# Altium schematic symbol library Diodes.SchLib: 448 symbols (part 9 of 10)
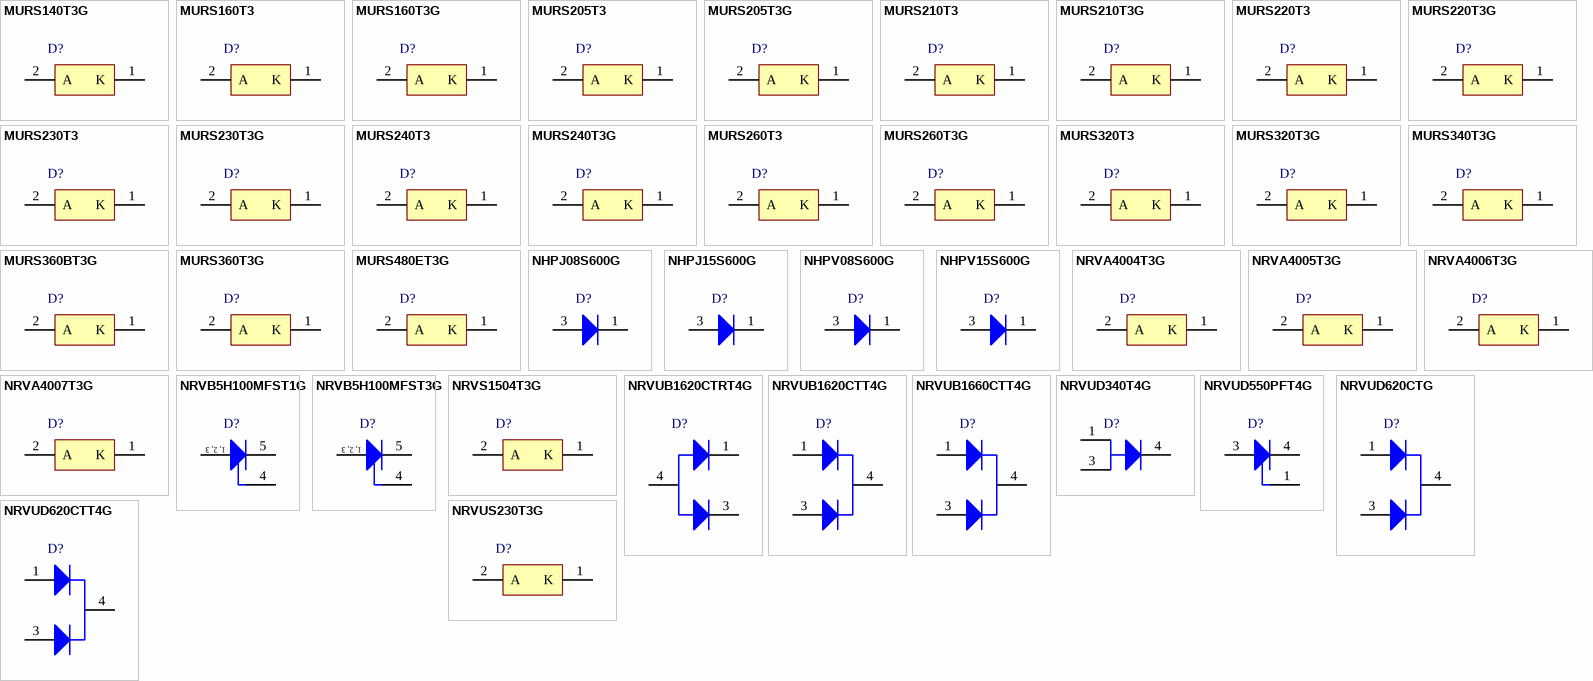
[diagram p19: symbols MURS140T3G to NRVUS230T3G]

## MURS480ET3G
designator D?
SWITCHMODE(TM) Power Rectifier, Ultrafast 'E' Series with High Reverse Energy Capability, 2-Pin SMC, Pb-Free, Tape and Reel; Manufacturer: On Semiconductor; PartNumber: MURS480ET3G; IFSM Max (A): 70; DatasheetVersion: Rev. 1; PackageVersion: Rev. E, 08/2005; PackageReference: SMC-2-403-03; PackageDescription: 2-Pin Small Molded Package, J-Bend Lead, Body 5.845 x 6.855 mm; Supplier 1: Digi-Key; Supplier Part Number 1: MURS480ET3GOSTR-ND; Supplier 2: Digi-Key; Supplier Part Number 2: MURS480ET3GOSCT-ND; Supplier 3: Digi-Key; Supplier Part Number 3: MURS480ET3GOSDKR-ND; Supplier 4: Newark; Supplier Part Number 4: 57M9773; Supplier 5: Mouser; Supplier Part Number 5: 863-MURS480ET3G; Packing: Tape and Reel; RoHS: TRUE; Type: Ultrafast; Mounting Technology: Surface Mount; ComponentLink1Description: Manufacturer URL; ComponentLink1URL: http://www.onsemi.com/; ComponentLink2Description: Datasheet; ComponentLink2URL: http://www.onsemi.cn/pub_link/Collateral/MURS480E.PDF; ComponentLink3Description: Package Specification; ComponentLink3URL: http://www.onsemi.com/pub_link/Collateral/403-03.PDF
footprint ONSC-SMC-2-403-03_V (Molded, 2-Leads, Body 6.86x5.84mm)
pins: 1 K, 2 A

## NHPJ08S600G
designator D?
SWITCHMODE(TM) Power Rectifier, 2-Pin TO-220FP, Pb-Free, Tube; Manufacturer: On Semiconductor; PartNumber: NHPJ08S600G; IFSM Max (A): 80; Type: Ultrafast; VRRM Max (V): 600; DatasheetVersion: Rev. 1; PackageVersion: Rev. A, 04/2013; PackageReference: TO-220FP-2-221AG; PackageDescription: 2-Pin Flange Mount, Vertical Straight Lead, Body 10.16 x 4.5 mm, Pitch 5.08 mm; Supplier 1: Newark; Supplier Part Number 1: 97W6302; Supplier 2: Mouser; Supplier Part Number 2: 863-NHPJ08S600G; Packing: Tube; RoHS: TRUE; Mounting Technology: Through Hole; ComponentLink1Description: Manufacturer URL; ComponentLink1URL: http://www.onsemi.com/; ComponentLink2Description: Datasheet; ComponentLink2URL: http://www.onsemi.com/pub_link/Collateral/NHPV08S600-D.PDF; ComponentLink3Description: Package Specification; ComponentLink3URL: http://www.onsemi.com/pub_link/Collateral/221AG.PDF
footprint ONSC-TO-220FP-2-221AG (FM, 2-Leads, Body 10.7x4.7mm, Pitch 5.08mm)
pins: 1 K, 3 A

## NHPJ15S600G
designator D?
SWITCHMODE(TM) Power Rectifier, 2-Pin TO-220FP, Pb-Free, Tube; Manufacturer: On Semiconductor; PartNumber: NHPJ15S600G; IFSM Max (A): 150; Type: Ultrafast; VRRM Max (V): 600; DatasheetVersion: Rev. 0; PackageVersion: Rev. A, 04/2013; PackageReference: TO-220FP-2-221AG; PackageDescription: 2-Pin Flange Mount, Vertical Straight Lead, Body 10.16 x 4.5 mm, Pitch 5.08 mm; Supplier 1: Newark; Supplier Part Number 1: 97W6303; Supplier 2: Mouser; Supplier Part Number 2: 863-NHPJ15S600G; Packing: Tube; RoHS: TRUE; Mounting Technology: Through Hole; ComponentLink1Description: Manufacturer URL; ComponentLink1URL: http://www.onsemi.com/; ComponentLink2Description: Datasheet; ComponentLink2URL: http://www.onsemi.com/pub_link/Collateral/NHPV15S600-D.PDF; ComponentLink3Description: Package Specification; ComponentLink3URL: http://www.onsemi.com/pub_link/Collateral/221AG.PDF
footprint ONSC-TO-220FP-2-221AG (FM, 2-Leads, Body 10.7x4.7mm, Pitch 5.08mm)
pins: 1 K, 3 A

## NHPV08S600G
designator D?
SWITCHMODE(TM) Power Rectifier, 2-Pin TO-220, Pb-Free, Tube; Manufacturer: On Semiconductor; PartNumber: NHPV08S600G; IFSM Max (A): 80; Type: Ultrafast; VRRM Max (V): 600; DatasheetVersion: Rev. 1; PackageVersion: Rev. E; PackageReference: TO-220-2-221B-04_E; PackageDescription: 2-Pin Flange Mount, Vertical Straight Lead, Body 9.97 x 4.44 mm, Pitch 5.08 mm; Supplier 1: Newark; Supplier Part Number 1: 97W6304; Supplier 2: Mouser; Supplier Part Number 2: 863-NHPV08S600G; Packing: Tube; RoHS: TRUE; Mounting Technology: Through Hole; ComponentLink1Description: Manufacturer URL; ComponentLink1URL: http://www.onsemi.com/; ComponentLink2Description: Datasheet; ComponentLink2URL: http://www.onsemi.com/pub_link/Collateral/NHPV08S600-D.PDF; ComponentLink3Description: Package Specification; ComponentLink3URL: http://www.onsemi.com/pub_link/Collateral/BYW29-D.PDF
footprint ONSC-TO-220-2-221B-04_E (FM, 2-Leads, Body 10.3x4.85mm, Pitch 5.08mm)
pins: 1 K, 3 A

## NHPV15S600G
designator D?
SWITCHMODE(TM) Power Rectifier, 2-Pin TO-220, Pb-Free, Tube; Manufacturer: On Semiconductor; PartNumber: NHPV15S600G; IFSM Max (A): 150; Type: Ultrafast; VRRM Max (V): 600; DatasheetVersion: Rev. 0; PackageVersion: Rev. E; PackageReference: TO-220-2-221B-04_E; PackageDescription: 2-Pin Flange Mount, Vertical Straight Lead, Body 9.97 x 4.44 mm, Pitch 5.08 mm; Supplier 1: Newark; Supplier Part Number 1: 97W6305; Supplier 2: Mouser; Supplier Part Number 2: 863-NHPV15S600G; Packing: Tube; RoHS: TRUE; Mounting Technology: Through Hole; ComponentLink1Description: Manufacturer URL; ComponentLink1URL: http://www.onsemi.com/; ComponentLink2Description: Datasheet; ComponentLink2URL: http://www.onsemi.com/pub_link/Collateral/NHPV15S600-D.PDF; ComponentLink3Description: Package Specification; ComponentLink3URL: http://www.onsemi.com/pub_link/Collateral/BYW29-D.PDF
footprint ONSC-TO-220-2-221B-04_E (FM, 2-Leads, Body 10.3x4.85mm, Pitch 5.08mm)
pins: 1 K, 3 A

## NRVA4004T3G
designator D?
Surface Mount Standard Recovery Power Rectifier, 2-Pin SMA, Pb-Free, Tape and Reel; Manufacturer: On Semiconductor; PartNumber: NRVA4004T3G; IFSM Max (A): 30; IO(rec) Max (A): 1; VRRM Max (V): 400; DatasheetVersion: Rev. 9; PackageVersion: Rev. G, 07/2012; PackageReference: SMA-2-403D-02; PackageDescription: 2-Pin Small Molded Package, J-Bend Lead, Body 2.605 x 4.315 mm; Supplier 1: Digi-Key; Supplier Part Number 1: NRVA4004T3G-ND; Supplier 2: Mouser; Supplier Part Number 2: 863-NRVA4004T3G; Packing: Tape and Reel; RoHS: TRUE; Type: Standard Recovery; Mounting Technology: Surface Mount; ComponentLink1Description: Manufacturer URL; ComponentLink1URL: http://www.onsemi.com/; ComponentLink2Description: Datasheet; ComponentLink2URL: http://www.onsemi.com/pub_link/Collateral/MRA4003T3-D.PDF; ComponentLink3Description: Package Specification; ComponentLink3URL: http://www.onsemi.com/pub_link/Collateral/403D-02.PDF
footprint ONSC-SMA-2-403D-02_V (Molded, 2-Leads, Body 4.57x2.92mm)
pins: 1 K, 2 A

## NRVA4005T3G
designator D?
Surface Mount Standard Recovery Power Rectifier, 2-Pin SMA, Pb-Free, Tape and Reel; Manufacturer: On Semiconductor; PartNumber: NRVA4005T3G; IFSM Max (A): 30; IO(rec) Max (A): 1; VRRM Max (V): 600; DatasheetVersion: Rev. 9; PackageVersion: Rev. G, 07/2012; PackageReference: SMA-2-403D-02; PackageDescription: 2-Pin Small Molded Package, J-Bend Lead, Body 2.605 x 4.315 mm; Supplier 1: Newark; Supplier Part Number 1: 45W8838; Supplier 2: Mouser; Supplier Part Number 2: 863-NRVA4005T3G; Packing: Tape and Reel; RoHS: TRUE; Type: Standard Recovery; Mounting Technology: Surface Mount; ComponentLink1Description: Manufacturer URL; ComponentLink1URL: http://www.onsemi.com/; ComponentLink2Description: Datasheet; ComponentLink2URL: http://www.onsemi.com/pub_link/Collateral/MRA4003T3-D.PDF; ComponentLink3Description: Package Specification; ComponentLink3URL: http://www.onsemi.com/pub_link/Collateral/403D-02.PDF
footprint ONSC-SMA-2-403D-02_V (Molded, 2-Leads, Body 4.57x2.92mm)
pins: 1 K, 2 A

## NRVA4006T3G
designator D?
Surface Mount Standard Recovery Power Rectifier, 2-Pin SMA, Pb-Free, Tape and Reel; Manufacturer: On Semiconductor; PartNumber: NRVA4006T3G; IFSM Max (A): 30; IO(rec) Max (A): 1; VRRM Max (V): 800; DatasheetVersion: Rev. 9; PackageVersion: Rev. G, 07/2012; PackageReference: SMA-2-403D-02; PackageDescription: 2-Pin Small Molded Package, J-Bend Lead, Body 2.605 x 4.315 mm; Supplier 1: Mouser; Supplier Part Number 1: 863-NRVA4006T3G; Packing: Tape and Reel; RoHS: TRUE; Type: Standard Recovery; Mounting Technology: Surface Mount; ComponentLink1Description: Manufacturer URL; ComponentLink1URL: http://www.onsemi.com/; ComponentLink2Description: Datasheet; ComponentLink2URL: http://www.onsemi.com/pub_link/Collateral/MRA4003T3-D.PDF; ComponentLink3Description: Package Specification; ComponentLink3URL: http://www.onsemi.com/pub_link/Collateral/403D-02.PDF
footprint ONSC-SMA-2-403D-02_V (Molded, 2-Leads, Body 4.57x2.92mm)
pins: 1 K, 2 A

## NRVA4007T3G
designator D?
Surface Mount Standard Recovery Power Rectifier, 2-Pin SMA, Pb-Free, Tape and Reel; Manufacturer: On Semiconductor; PartNumber: NRVA4007T3G; IFSM Max (A): 30; IO(rec) Max (A): 1; VRRM Max (V): 1000; DatasheetVersion: Rev. 9; PackageVersion: Rev. G, 07/2012; PackageReference: SMA-2-403D-02; PackageDescription: 2-Pin Small Molded Package, J-Bend Lead, Body 2.605 x 4.315 mm; Supplier 1: Newark; Supplier Part Number 1: 45W8840; Supplier 2: Mouser; Supplier Part Number 2: 863-NRVA4007T3G; Packing: Tape and Reel; RoHS: TRUE; Type: Standard Recovery; Mounting Technology: Surface Mount; ComponentLink1Description: Manufacturer URL; ComponentLink1URL: http://www.onsemi.com/; ComponentLink2Description: Datasheet; ComponentLink2URL: http://www.onsemi.com/pub_link/Collateral/MRA4003T3-D.PDF; ComponentLink3Description: Package Specification; ComponentLink3URL: http://www.onsemi.com/pub_link/Collateral/403D-02.PDF
footprint ONSC-SMA-2-403D-02_V (Molded, 2-Leads, Body 4.57x2.92mm)
pins: 1 K, 2 A

## NRVB5H100MFST1G
designator D?
SWITCHMODE(TM) Power Rectifier, 5-Pin DFN, Pb-Free, Tape and Reel; Manufacturer: On Semiconductor; PartNumber: NRVB5H100MFST1G; Note: 0; IFSM Max (A): 200; DatasheetVersion: Rev. G; PackageVersion: Rev. G, 04/2012; PackageReference: DFN-5-488AA_G; PackageDescription: 5-Pin Small Outline No-Lead, Body 4.9 x 5.8 mm, Pitch 1.27 mm; Packing: Tape and Reel; RoHS: TRUE; Mounting Technology: Surface Mount; ComponentLink1Description: Manufacturer URL; ComponentLink1URL: http://www.onsemi.com/; ComponentLink2Description: Datasheet; ComponentLink2URL: http://www.onsemi.com/pub_link/Collateral/MBR5H100MFS-D.PDF; ComponentLink3Description: Package Specification; ComponentLink3URL: http://www.onsemi.com/pub_link/Collateral/MBR5H100MFS-D.PDF
footprint ONSC-DFN-5-488AA_G_V (DFN, 5-Leads, Body 4.9x5.8mm)
pins: 1 A, 2 A, 3 A, 4 NC, 5 K
text: 1, 2, 3

## NRVB5H100MFST3G
designator D?
SWITCHMODE(TM) Power Rectifier, 5-Pin DFN, Pb-Free, Tape and Reel; Manufacturer: On Semiconductor; PartNumber: NRVB5H100MFST3G; Note: 0; IFSM Max (A): 200; DatasheetVersion: Rev. G; PackageVersion: Rev. G, 04/2012; PackageReference: DFN-5-488AA_G; PackageDescription: 5-Pin Small Outline No-Lead, Body 4.9 x 5.8 mm, Pitch 1.27 mm; Packing: Tape and Reel; RoHS: TRUE; Mounting Technology: Surface Mount; ComponentLink1Description: Manufacturer URL; ComponentLink1URL: http://www.onsemi.com/; ComponentLink2Description: Datasheet; ComponentLink2URL: http://www.onsemi.com/pub_link/Collateral/MBR5H100MFS-D.PDF; ComponentLink3Description: Package Specification; ComponentLink3URL: http://www.onsemi.com/pub_link/Collateral/MBR5H100MFS-D.PDF
footprint ONSC-DFN-5-488AA_G_V (DFN, 5-Leads, Body 4.9x5.8mm)
pins: 1 A, 2 A, 3 A, 4 NC, 5 K
text: 1, 2, 3

## NRVS1504T3G
designator D?
Surface Mount Standard Recovery Power Rectifier, 2-Pin SMB, Pb-Free, Tape and Reel; Manufacturer: On Semiconductor; PartNumber: NRVS1504T3G; IFSM Max (A): 50; IO(rec) Max (A): 1.5; VRRM Max (V): 400; DatasheetVersion: Rev. 6; PackageVersion: Rev. J, 07/2012; PackageReference: SMB-2-403A-03; PackageDescription: 2-Pin Small Molded Package, J-Bend Lead, Body 4.33 x 3.625 mm; Supplier 1: Digi-Key; Supplier Part Number 1: NRVS1504T3G-ND; Supplier 2: Mouser; Supplier Part Number 2: 863-NRVS1504T3G; Packing: Tape and Reel; RoHS: TRUE; Type: Standard Recovery; Mounting Technology: Surface Mount; ComponentLink1Description: Manufacturer URL; ComponentLink1URL: http://www.onsemi.com/; ComponentLink2Description: Datasheet; ComponentLink2URL: http://www.onsemi.com/pub_link/Collateral/MRS1504T3-D.PDF; ComponentLink3Description: Package Specification; ComponentLink3URL: http://www.onsemi.com/pub_link/Collateral/403A-03.PDF
footprint ONSC-SMB-2-403A-03_V (Molded, 2-Leads, Body 4.6x3.95mm)
pins: 1 K, 2 A

## NRVUB1620CTRT4G
designator D?
SWITCHMODE(TM) Power Rectifier, 3-Pin D2PAK, Pb-Free, Tape and Reel; Manufacturer: On Semiconductor; PartNumber: NRVUB1620CTRT4G; IFSM Max (A): 100; Type: Ultrafast; VRRM Max (V): 200; DatasheetVersion: Rev. 8; PackageVersion: Rev. A, 07/2011; PackageReference: D2PAK-3-418AJ_A; PackageDescription: 3-Pin Flange Mount, Body 10.16 x 9.015 mm, Pitch 2.54 mm; Supplier 1: Mouser; Supplier Part Number 1: N/A; Packing: Tape and Reel; RoHS: TRUE; Mounting Technology: Surface Mount; ComponentLink1Description: Manufacturer URL; ComponentLink1URL: http://www.onsemi.com/; ComponentLink2Description: Datasheet; ComponentLink2URL: http://www.onsemi.cn/pub_link/Collateral/MUR1620CTR-D.PDF; ComponentLink3Description: Package Specification; ComponentLink3URL: http://www.onsemi.cn/pub_link/Collateral/MUR1620CTR-D.PDF
footprint ONSC-D2PAK-3-418AJ_A_V (DPAK, 3-Leads, Body 10.16x9.015mm, Pitch 2.54mm)
pins: 1 K1, 3 K2, 4 A

## NRVUB1620CTT4G
designator D?
SWITCHMODE(TM) Power Rectifier, 3-Pin D2PAK, Pb-Free, Tape and Reel; Manufacturer: On Semiconductor; PartNumber: NRVUB1620CTT4G; IFSM Max (A): 100; Type: Ultrafast; VRRM Max (V): 200; DatasheetVersion: Rev. 7; PackageVersion: Rev. K, 09/2008; PackageReference: D2PAK-3-418B-04; PackageDescription: 3-Pin Flange Mount, Body 9.145 x 9.97 mm, Pitch 2.54 mm; Supplier 1: Mouser; Supplier Part Number 1: N/A; Packing: Tape and Reel; RoHS: TRUE; Mounting Technology: Surface Mount; ComponentLink1Description: Manufacturer URL; ComponentLink1URL: http://www.onsemi.com/; ComponentLink2Description: Datasheet; ComponentLink2URL: http://www.onsemi.cn/pub_link/Collateral/MURB1620CT-D.PDF; ComponentLink3Description: Package Specification; ComponentLink3URL: http://www.onsemi.com/pub_link/Collateral/418B-04.PDF
footprint ONSC-D2PAK-3-418B-04_V (DPAK, 3-Leads, Body 9.97x9.145mm, Pitch 2.54mm)
pins: 1 A1, 3 A2, 4 K

## NRVUB1660CTT4G
designator D?
SWITCHMODE(TM) Power Rectifier, 3-Pin D2PAK, Pb-Free, Tape and Reel; Manufacturer: On Semiconductor; PartNumber: NRVUB1660CTT4G; IFSM Max (A): 100; Type: Ultrafast; VRRM Max (V): 600; DatasheetVersion: Rev. 8; PackageVersion: Rev. K, 09/2008; PackageReference: D2PAK-3-418B-04; PackageDescription: 3-Pin Flange Mount, Body 9.145 x 9.97 mm, Pitch 2.54 mm; Supplier 1: Digi-Key; Supplier Part Number 1: NRVUB1660CTT4G-ND; Supplier 2: Newark; Supplier Part Number 2: 76T6682; Supplier 3: Mouser; Supplier Part Number 3: 863-NRVUB1660CTT4G; Packing: Tape and Reel; RoHS: TRUE; Mounting Technology: Surface Mount; ComponentLink1Description: Manufacturer URL; ComponentLink1URL: http://www.onsemi.com/; ComponentLink2Description: Datasheet; ComponentLink2URL: http://www.onsemi.cn/pub_link/Collateral/MURB1660CT-D.PDF; ComponentLink3Description: Package Specification; ComponentLink3URL: http://www.onsemi.com/pub_link/Collateral/418B-04.PDF
footprint ONSC-D2PAK-3-418B-04_V (DPAK, 3-Leads, Body 9.97x9.145mm, Pitch 2.54mm)
pins: 1 A1, 3 A2, 4 K

## NRVUD340T4G
designator D?
SWITCHMODE(TM) Power Rectifier, 3-Pin DPAK, Pb-Free, Tape and Reel; Manufacturer: On Semiconductor; PartNumber: NRVUD340T4G; IFSM Max (A): 75; Type: Ultrafast; DatasheetVersion: Rev. 2; PackageVersion: Rev. E, 02/2014; PackageReference: DPAK-3-369C-01; PackageDescription: 3-Pin Flange Mount, Body 6.54 x 6.095 mm, Pitch 2.29 mm; Supplier 1: Digi-Key; Supplier Part Number 1: NRVUD340T4G-ND; Supplier 2: Mouser; Supplier Part Number 2: 863-NRVUD340T4G; Packing: Tape and Reel; RoHS: TRUE; Mounting Technology: Surface Mount; ComponentLink1Description: Manufacturer URL; ComponentLink1URL: http://www.onsemi.com/; ComponentLink2Description: Datasheet; ComponentLink2URL: http://www.onsemi.cn/pub_link/Collateral/MURD340-D.PDF; ComponentLink3Description: Package Specification; ComponentLink3URL: http://www.onsemi.cn/pub_link/Collateral/369C.PDF
footprint ONSC-DPAK-3-369C-01_V (DPAK, 3-Leads, Body 6.54x6.095mm, Pitch 2.29mm)
pins: 1 A, 3 A, 4 K

## NRVUD550PFT4G
designator D?
SWITCHMODE(TM) Power Rectifier, 3-Pin DPAK, Pb-Free, Tape and Reel; Manufacturer: On Semiconductor; PartNumber: NRVUD550PFT4G; IFSM Max (A): 75; Type: Ultrafast; VRRM Max (V): 520; DatasheetVersion: Rev. 8; PackageVersion: Rev. E, 02/2014; PackageReference: DPAK-3-369C-01; PackageDescription: 3-Pin Flange Mount, Body 6.54 x 6.095 mm, Pitch 2.29 mm; Supplier 1: Digi-Key; Supplier Part Number 1: NRVUD550PFT4G-ND; Supplier 2: Newark; Supplier Part Number 2: 76T6684; Supplier 3: Mouser; Supplier Part Number 3: 863-NRVUD550PFT4G; Packing: Tape and Reel; RoHS: TRUE; Mounting Technology: Surface Mount; ComponentLink1Description: Manufacturer URL; ComponentLink1URL: http://www.onsemi.com/; ComponentLink2Description: Datasheet; ComponentLink2URL: http://www.onsemi.cn/pub_link/Collateral/MUR550-D.PDF; ComponentLink3Description: Package Specification; ComponentLink3URL: http://www.onsemi.cn/pub_link/Collateral/369C.PDF
footprint ONSC-DPAK-3-369C-01_V (DPAK, 3-Leads, Body 6.54x6.095mm, Pitch 2.29mm)
pins: 1 NC, 3 A, 4 K

## NRVUD620CTG
designator D?
SWITCHMODE(TM) Power Rectifier, 3-Pin DPAK, Pb-Free, Tube; Manufacturer: On Semiconductor; PartNumber: NRVUD620CTG; IFSM Max (A): 50; Type: Ultrafast; VRRM Max (V): 200; DatasheetVersion: Rev. 11; PackageVersion: Rev. E, 02/2014; PackageReference: DPAK-3-369C-01; PackageDescription: 3-Pin Flange Mount, Body 6.54 x 6.095 mm, Pitch 2.29 mm; Supplier 1: Digi-Key; Supplier Part Number 1: NRVUD620CTG-ND; Supplier 2: Mouser; Supplier Part Number 2: 863-NRVUD620CTG; Packing: Tube; RoHS: TRUE; Mounting Technology: Surface Mount; ComponentLink1Description: Manufacturer URL; ComponentLink1URL: http://www.onsemi.com/; ComponentLink2Description: Datasheet; ComponentLink2URL: http://www.onsemi.cn/pub_link/Collateral/MURD620CT-D.PDF; ComponentLink3Description: Package Specification; ComponentLink3URL: http://www.onsemi.cn/pub_link/Collateral/369C.PDF
footprint ONSC-DPAK-3-369C-01_V (DPAK, 3-Leads, Body 6.54x6.095mm, Pitch 2.29mm)
pins: 1 A1, 3 A2, 4 K

## NRVUD620CTT4G
designator D?
SWITCHMODE(TM) Power Rectifier, 3-Pin DPAK, Pb-Free, Tape and Reel; Manufacturer: On Semiconductor; PartNumber: NRVUD620CTT4G; IFSM Max (A): 50; Type: Ultrafast; VRRM Max (V): 200; DatasheetVersion: Rev. 11; PackageVersion: Rev. E, 02/2014; PackageReference: DPAK-3-369C-01; PackageDescription: 3-Pin Flange Mount, Body 6.54 x 6.095 mm, Pitch 2.29 mm; Supplier 1: Digi-Key; Supplier Part Number 1: NRVUD620CTT4G-ND; Supplier 2: Newark; Supplier Part Number 2: 76T6686; Supplier 3: Newark; Supplier Part Number 3: 95W5335; Supplier 4: Mouser; Supplier Part Number 4: 863-NRVUD620CTT4G; Packing: Tape and Reel; RoHS: TRUE; Mounting Technology: Surface Mount; ComponentLink1Description: Manufacturer URL; ComponentLink1URL: http://www.onsemi.com/; ComponentLink2Description: Datasheet; ComponentLink2URL: http://www.onsemi.cn/pub_link/Collateral/MURD620CT-D.PDF; ComponentLink3Description: Package Specification; ComponentLink3URL: http://www.onsemi.cn/pub_link/Collateral/369C.PDF
footprint ONSC-DPAK-3-369C-01_V (DPAK, 3-Leads, Body 6.54x6.095mm, Pitch 2.29mm)
pins: 1 A1, 3 A2, 4 K

## NRVUS230T3G
designator D?
Surface Mount Ultrafast Power Rectifier, 2-Pin SMB, Pb-Free, Tape and Reel; Manufacturer: On Semiconductor; PartNumber: NRVUS230T3G; IFSM Max (A): 35; DatasheetVersion: Rev. 8; PackageVersion: Rev. H, 05/2011; PackageReference: SMB-2-403A-03_H; PackageDescription: 2-Pin Small Molded Package, J-Bend Lead, Body 4.33 x 3.625 mm; Supplier 1: Digi-Key; Supplier Part Number 1: NRVUS230T3G-ND; Supplier 2: Mouser; Supplier Part Number 2: 863-NRVUS230T3G; Packing: Tape and Reel; RoHS: TRUE; Type: Ultrafast; Mounting Technology: Surface Mount; ComponentLink1Description: Manufacturer URL; ComponentLink1URL: http://www.onsemi.com/; ComponentLink2Description: Datasheet; ComponentLink2URL: http://www.onsemi.cn/pub_link/Collateral/MURS230T3-D.PDF; ComponentLink3Description: Package Specification; ComponentLink3URL: http://www.onsemi.com/pub_link/Collateral/1SMB5913BT3-D.PDF
footprint ONSC-SMB-2-403A-03_H_V (Molded, 2-Leads, Body 4.6x3.95mm)
pins: 1 K, 2 A

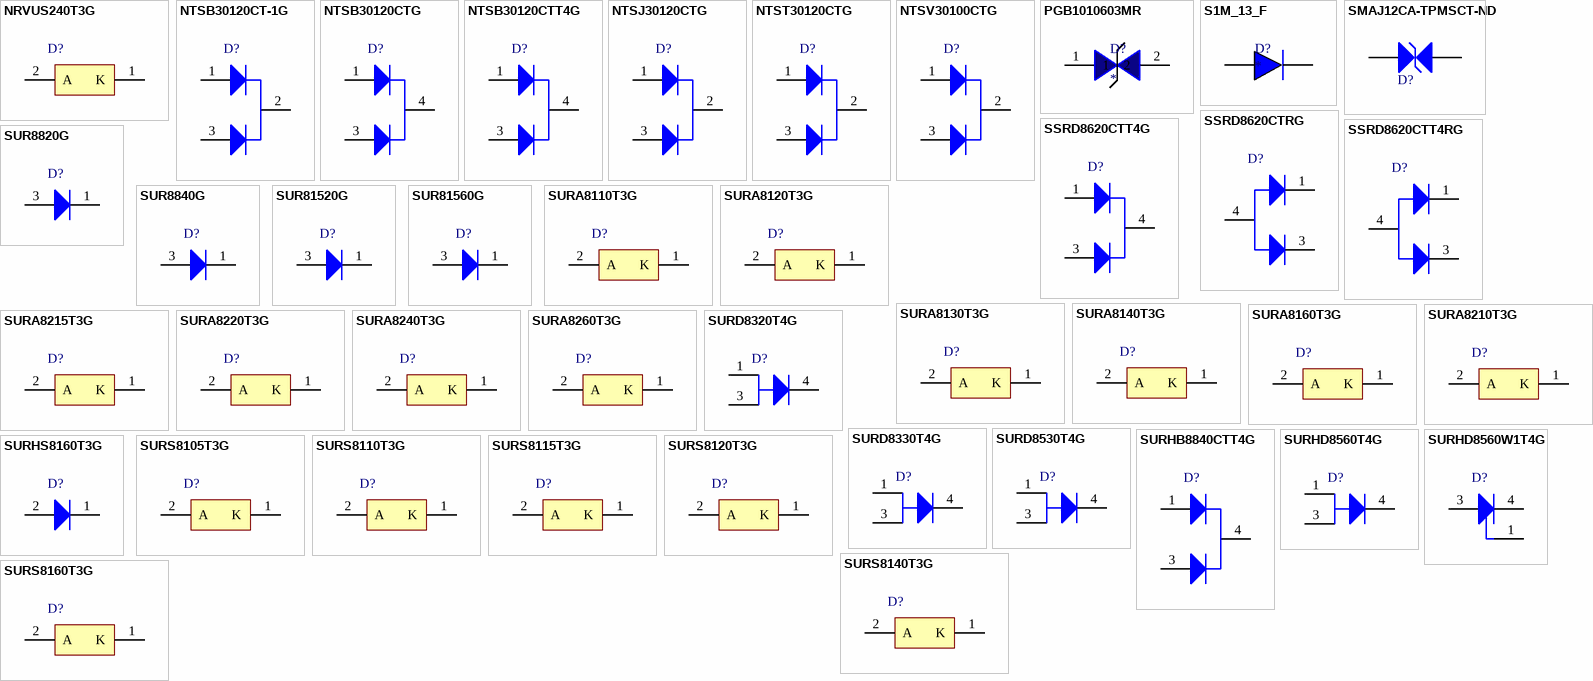
[diagram p10: symbols NRVUS240T3G to SURS8160T3G]

## NRVUS240T3G
designator D?
Surface Mount Ultrafast Power Rectifier, 2-Pin SMB, Pb-Free, Tape and Reel; Manufacturer: On Semiconductor; PartNumber: NRVUS240T3G; IFSM Max (A): 35; DatasheetVersion: Rev. 8; PackageVersion: Rev. H, 05/2011; PackageReference: SMB-2-403A-03_H; PackageDescription: 2-Pin Small Molded Package, J-Bend Lead, Body 4.33 x 3.625 mm; Supplier 1: Digi-Key; Supplier Part Number 1: NRVUS240T3G-ND; Supplier 2: Newark; Supplier Part Number 2: 76T6688; Supplier 3: Mouser; Supplier Part Number 3: 863-NRVUS240T3G; Packing: Tape and Reel; RoHS: TRUE; Type: Ultrafast; Mounting Technology: Surface Mount; ComponentLink1Description: Manufacturer URL; ComponentLink1URL: http://www.onsemi.com/; ComponentLink2Description: Datasheet; ComponentLink2URL: http://www.onsemi.cn/pub_link/Collateral/MURS230T3-D.PDF; ComponentLink3Description: Package Specification; ComponentLink3URL: http://www.onsemi.com/pub_link/Collateral/1SMB5913BT3-D.PDF
footprint ONSC-SMB-2-403A-03_H_V (Molded, 2-Leads, Body 4.6x3.95mm)
pins: 1 K, 2 A

## NTSB30120CT-1G
designator D?
Very Low Forward Voltage Trench-based Schottky Rectifier, Exceptionally Low VF=0.5 V at IF=5 A, 3-Pin I2PAK, Pb-Free, Tube; Manufacturer: On Semiconductor; PartNumber: NTSB30120CT-1G; IFSM Max (A): 150; VRRM Max (V): 120; DatasheetVersion: Rev. 4; PackageVersion: Rev. D, 10/2007; PackageReference: I2PAK-3-418D-01; PackageDescription: 3-Pin Flange Mount, Vertical Straight Lead, Body 9.98 x 4.38 mm, Pitch 2.54 mm; Supplier 1: Digi-Key; Supplier Part Number 1: NTSB30120CT-1GOS-ND; Supplier 2: Farnell; Supplier Part Number 2: 2114680; Supplier 3: Newark; Supplier Part Number 3: 05W5648; Supplier 4: Mouser; Supplier Part Number 4: 863-NTSB30120CT-1G; Packing: Tube; RoHS: TRUE; Mounting Technology: Through Hole; ComponentLink1Description: Manufacturer URL; ComponentLink1URL: http://www.onsemi.com/; ComponentLink2Description: Datasheet; ComponentLink2URL: http://www.onsemi.cn/pub_link/Collateral/NTST30120CT-D.PDF; ComponentLink3Description: Package Specification; ComponentLink3URL: http://www.onsemi.com/pub_link/Collateral/418D.PDF
footprint ONSC-I2PAK-3-418D-01 (FM, 3-Leads, Body 10.35x4.7mm, Pitch 2.54mm)
pins: 1 A1, 2 K, 3 A2

## NTSB30120CTG
designator D?
Very Low Forward Voltage Trench-based Schottky Rectifier, Exceptionally Low VF=0.5 V at IF=5 A, 3-Pin D2PAK, Pb-Free, Tube; Manufacturer: On Semiconductor; PartNumber: NTSB30120CTG; IFSM Max (A): 150; VRRM Max (V): 120; DatasheetVersion: Rev. 4; PackageVersion: Rev. K, 09/2008; PackageReference: D2PAK-3-418B-04; PackageDescription: 3-Pin Flange Mount, Body 9.145 x 9.97 mm, Pitch 2.54 mm; Supplier 1: Digi-Key; Supplier Part Number 1: NTSB30120CTGOS-ND; Supplier 2: Farnell; Supplier Part Number 2: 2114676; Supplier 3: Newark; Supplier Part Number 3: 05W5649; Supplier 4: Newark; Supplier Part Number 4: 92T2188; Supplier 5: Mouser; Supplier Part Number 5: 863-NTSB30120CTG; Packing: Tube; RoHS: TRUE; Mounting Technology: Surface Mount; ComponentLink1Description: Manufacturer URL; ComponentLink1URL: http://www.onsemi.com/; ComponentLink2Description: Datasheet; ComponentLink2URL: http://www.onsemi.cn/pub_link/Collateral/NTST30120CT-D.PDF; ComponentLink3Description: Package Specification; ComponentLink3URL: http://www.onsemi.com/pub_link/Collateral/418B-04.PDF
footprint ONSC-D2PAK-3-418B-04_V (DPAK, 3-Leads, Body 9.97x9.145mm, Pitch 2.54mm)
pins: 1 A1, 3 A2, 4 K

## NTSB30120CTT4G
designator D?
Very Low Forward Voltage Trench-based Schottky Rectifier, Exceptionally Low VF=0.5 V at IF=5 A, 3-Pin D2PAK, Pb-Free, Tape and Reel; Manufacturer: On Semiconductor; PartNumber: NTSB30120CTT4G; IFSM Max (A): 150; VRRM Max (V): 120; DatasheetVersion: Rev. 4; PackageVersion: Rev. K, 09/2008; PackageReference: D2PAK-3-418B-04; PackageDescription: 3-Pin Flange Mount, Body 9.145 x 9.97 mm, Pitch 2.54 mm; Supplier 1: Digi-Key; Supplier Part Number 1: NTSB30120CTT4GOSTR-ND; Supplier 2: Digi-Key; Supplier Part Number 2: NTSB30120CTT4GOSCT-ND; Supplier 3: Digi-Key; Supplier Part Number 3: NTSB30120CTT4GOSDKR-ND; Supplier 4: Newark; Supplier Part Number 4: 92T2189; Supplier 5: Mouser; Supplier Part Number 5: 863-NTSB30120CTT4G; Packing: Tape and Reel; RoHS: TRUE; Mounting Technology: Surface Mount; ComponentLink1Description: Manufacturer URL; ComponentLink1URL: http://www.onsemi.com/; ComponentLink2Description: Datasheet; ComponentLink2URL: http://www.onsemi.cn/pub_link/Collateral/NTST30120CT-D.PDF; ComponentLink3Description: Package Specification; ComponentLink3URL: http://www.onsemi.com/pub_link/Collateral/418B-04.PDF
footprint ONSC-D2PAK-3-418B-04_V (DPAK, 3-Leads, Body 9.97x9.145mm, Pitch 2.54mm)
pins: 1 A1, 3 A2, 4 K

## NTSJ30120CTG
designator D?
Very Low Forward Voltage Trench-based Schottky Rectifier, Exceptionally Low VF=0.5 V at IF=5 A, 3-Pin TO-220, Pb-Free, Tube; Manufacturer: On Semiconductor; PartNumber: NTSJ30120CTG; IFSM Max (A): 150; VRRM Max (V): 120; DatasheetVersion: Rev. 4; PackageVersion: Rev. E, 04/2013; PackageReference: TO-220-3-221AH; PackageDescription: 3-Pin Flange Mount, Vertical Straight Lead, Body 10 x 4.5 mm, Pitch 2.54 mm; Supplier 1: Digi-Key; Supplier Part Number 1: NTSJ30120CTGOS-ND; Supplier 2: Farnell; Supplier Part Number 2: 2114696; Supplier 3: Newark; Supplier Part Number 3: 05W5657; Supplier 4: Mouser; Supplier Part Number 4: 863-NTSJ30120CTG; Packing: Tube; RoHS: TRUE; Mounting Technology: Through Hole; ComponentLink1Description: Manufacturer URL; ComponentLink1URL: http://www.onsemi.com/; ComponentLink2Description: Datasheet; ComponentLink2URL: http://www.onsemi.cn/pub_link/Collateral/NTST30120CT-D.PDF; ComponentLink3Description: Package Specification; ComponentLink3URL: http://www.onsemi.com/pub_link/Collateral/221AH.PDF
footprint ONSC-TO-220-3-221AH (FM, 3-Leads, Body 10.3x4.7mm, Pitch 2.54mm)
pins: 1 A1, 2 K, 3 A2

## NTST30120CTG
designator D?
Very Low Forward Voltage Trench-based Schottky Rectifier, Exceptionally Low VF=0.5 V at IF=5 A, 3-Pin TO-220, Pb-Free, Tube; Manufacturer: On Semiconductor; PartNumber: NTST30120CTG; IFSM Max (A): 150; VRRM Max (V): 120; DatasheetVersion: Rev. 4; PackageVersion: Rev. AF; PackageReference: TO-220-3-221A-09_AF; PackageDescription: 3-Pin Flange Mount, Vertical Straight Lead, Body 9.97 x 4.445 mm, Pitch 2.54 mm; Supplier 1: Digi-Key; Supplier Part Number 1: NTST30120CTGOS-ND; Supplier 2: Farnell; Supplier Part Number 2: 2114685; Supplier 3: Newark; Supplier Part Number 3: 05W5661; Supplier 4: Mouser; Supplier Part Number 4: 863-NTST30120CTG; Packing: Tube; RoHS: TRUE; Mounting Technology: Through Hole; ComponentLink1Description: Manufacturer URL; ComponentLink1URL: http://www.onsemi.com/; ComponentLink2Description: Datasheet; ComponentLink2URL: http://www.onsemi.cn/pub_link/Collateral/NTST30120CT-D.PDF; ComponentLink3Description: Package Specification; ComponentLink3URL: http://www.onsemi.cn/pub_link/Collateral/MCR8S-D.PDF
footprint ONSC-TO-220-3-221A-09_AF (FM, 3-Leads, Body 10.3x4.85mm, Pitch 2.54mm)
pins: 1 A1, 2 K, 3 A2

## NTSV30100CTG
designator D?
Very Low Forward Voltage Trench-based Schottky Rectifier, Exceptionally Low VF=0.471 V at IF=5 A, 3-Pin TO-220, Pb-Free, Tube; Manufacturer: On Semiconductor; PartNumber: NTSV30100CTG; IFSM Max (A): 100; DatasheetVersion: Rev. 0; PackageVersion: Rev. AG, 09/2011; PackageReference: TO-220-3-221A-09; PackageDescription: 3-Pin Flange Mount, Vertical Straight Lead, Body 9.97 x 4.445 mm, Pitch 2.54 mm; Supplier 1: Digi-Key; Supplier Part Number 1: NTSV30100CTGOS-ND; Supplier 2: Farnell; Supplier Part Number 2: 2114691; Supplier 3: Newark; Supplier Part Number 3: 05W5666; Supplier 4: Mouser; Supplier Part Number 4: 863-NTSV30100CTG; Packing: Tube; RoHS: TRUE; VRRM Max (V): 100; Mounting Technology: Through Hole; ComponentLink1Description: Manufacturer URL; ComponentLink1URL: http://www.onsemi.com/; ComponentLink2Description: Datasheet; ComponentLink2URL: http://www.onsemi.cn/pub_link/Collateral/NTSV30100CT-D.PDF; ComponentLink3Description: Package Specification; ComponentLink3URL: http://www.onsemi.com/pub_link/Collateral/221A-09.PDF
footprint ONSC-TO-220-3-221A-09 (FM, 3-Leads, Body 10.3x4.85mm, Pitch 2.54mm)
pins: 1 A1, 2 K, 3 A2

## PGB1010603MR
designator D?
footprint 0603
pins: 1, 2

## S1M_13_F
designator D?
footprint SMA
pins: A, K

## SMAJ12CA-TPMSCT-ND
designator D?, comment Transient Voltage Suppressor 400W 12V BIDIRECT SMA  (value not drawn)
Manufacturer: Micro Commercial Co; Manufacturer Part#: SMAJ12CA-TP; Digi-Key#: SMAJ12CA-TPMSCT-ND
footprint SMA (SMA DO-214AC)
pins: A, K

## SSRD8620CTRG
designator D?
SWITCHMODE(TM) Soft Ultrafast Recovery Reverse Polarity Power Rectifier, 3-Pin DPAK, Pb-Free, Tube; Manufacturer: On Semiconductor; PartNumber: SSRD8620CTRG; IFSM Max (A): 45; Type: Ultrasoft; VRRM Max (V): 200; DatasheetVersion: Rev. 3; PackageVersion: Rev. E, 02/2014; PackageReference: DPAK-3-369C-01; PackageDescription: 3-Pin Flange Mount, Body 6.54 x 6.095 mm, Pitch 2.29 mm; Supplier 1: Digi-Key; Supplier Part Number 1: SSRD8620CTRG-ND; Supplier 2: Mouser; Supplier Part Number 2: 863-SSRD8620CTRG; Packing: Tube; RoHS: TRUE; Mounting Technology: Surface Mount; ComponentLink1Description: Manufacturer URL; ComponentLink1URL: http://www.onsemi.com/; ComponentLink2Description: Datasheet; ComponentLink2URL: http://www.onsemi.com/pub_link/Collateral/MSRD620CTR-D.PDF; ComponentLink3Description: Package Specification; ComponentLink3URL: http://www.onsemi.cn/pub_link/Collateral/369C.PDF
footprint ONSC-DPAK-3-369C-01_V (DPAK, 3-Leads, Body 6.54x6.095mm, Pitch 2.29mm)
pins: 1 K1, 3 K2, 4 A

## SSRD8620CTT4G
designator D?
SWITCHMODE(TM) Soft Ultrafast Recovery Power Rectifier, 3-Pin DPAK, Pb-Free, Tape and Reel; Manufacturer: On Semiconductor; PartNumber: SSRD8620CTT4G; IFSM Max (A): 50; Type: Ultrasoft; VRRM Max (V): 200; DatasheetVersion: Rev. 7; PackageVersion: Rev. E, 02/2014; PackageReference: DPAK-3-369C-01; PackageDescription: 3-Pin Flange Mount, Body 6.54 x 6.095 mm, Pitch 2.29 mm; Supplier 1: Mouser; Supplier Part Number 1: N/A; Packing: Tape and Reel; RoHS: TRUE; Mounting Technology: Surface Mount; ComponentLink1Description: Manufacturer URL; ComponentLink1URL: http://www.onsemi.com/; ComponentLink2Description: Datasheet; ComponentLink2URL: http://www.onsemi.com/pub_link/Collateral/MSRD620CT-D.PDF; ComponentLink3Description: Package Specification; ComponentLink3URL: http://www.onsemi.cn/pub_link/Collateral/369C.PDF
footprint ONSC-DPAK-3-369C-01_V (DPAK, 3-Leads, Body 6.54x6.095mm, Pitch 2.29mm)
pins: 1 A1, 3 A2, 4 K

## SSRD8620CTT4RG
designator D?
SWITCHMODE(TM) Soft Ultrafast Recovery Reverse Polarity Power Rectifier, 3-Pin DPAK, Pb-Free, Tape and Reel; Manufacturer: On Semiconductor; PartNumber: SSRD8620CTT4RG; IFSM Max (A): 45; Type: Ultrasoft; VRRM Max (V): 200; DatasheetVersion: Rev. 3; PackageVersion: Rev. E, 02/2014; PackageReference: DPAK-3-369C-01; PackageDescription: 3-Pin Flange Mount, Body 6.54 x 6.095 mm, Pitch 2.29 mm; Supplier 1: Digi-Key; Supplier Part Number 1: SSRD8620CTT4RG-ND; Supplier 2: Mouser; Supplier Part Number 2: 863-SSRD8620CTT4RG; Packing: Tape and Reel; RoHS: TRUE; Mounting Technology: Surface Mount; ComponentLink1Description: Manufacturer URL; ComponentLink1URL: http://www.onsemi.com/; ComponentLink2Description: Datasheet; ComponentLink2URL: http://www.onsemi.com/pub_link/Collateral/MSRD620CTR-D.PDF; ComponentLink3Description: Package Specification; ComponentLink3URL: http://www.onsemi.cn/pub_link/Collateral/369C.PDF
footprint ONSC-DPAK-3-369C-01_V (DPAK, 3-Leads, Body 6.54x6.095mm, Pitch 2.29mm)
pins: 1 K1, 3 K2, 4 A

## SUR8820G
designator D?
SWITCHMODE(TM) Power Rectifier, 2-Pin TO-220, Pb-Free, Tube; Manufacturer: On Semiconductor; PartNumber: SUR8820G; IFSM Max (A): 100; Type: Ultrafast; VRRM Max (V): 200; DatasheetVersion: Rev. 13; PackageVersion: Rev. F, 04/2013; PackageReference: TO-220-2-221B-04; PackageDescription: 2-Pin Flange Mount, Vertical Straight Lead, Body 9.97 x 4.44 mm, Pitch 5.08 mm; Supplier 1: Mouser; Supplier Part Number 1: N/A; Packing: Tube; RoHS: TRUE; Mounting Technology: Through Hole; ComponentLink1Description: Manufacturer URL; ComponentLink1URL: http://www.onsemi.com/; ComponentLink2Description: Datasheet; ComponentLink2URL: http://www.onsemi.cn/pub_link/Collateral/MUR820-D.PDF; ComponentLink3Description: Package Specification; ComponentLink3URL: http://www.onsemi.com/pub_link/Collateral/221B-04.PDF
footprint ONSC-TO-220-2-221B-04 (FM, 2-Leads, Body 10.3x4.85mm, Pitch 5.08mm)
pins: 1 K, 3 A

## SUR8840G
designator D?
SWITCHMODE(TM) Power Rectifier, 2-Pin TO-220, Pb-Free, Tube; Manufacturer: On Semiconductor; PartNumber: SUR8840G; IFSM Max (A): 100; Type: Ultrafast; VRRM Max (V): 400; DatasheetVersion: Rev. 13; PackageVersion: Rev. F, 04/2013; PackageReference: TO-220-2-221B-04; PackageDescription: 2-Pin Flange Mount, Vertical Straight Lead, Body 9.97 x 4.44 mm, Pitch 5.08 mm; Supplier 1: Mouser; Supplier Part Number 1: N/A; Packing: Tube; RoHS: TRUE; Mounting Technology: Through Hole; ComponentLink1Description: Manufacturer URL; ComponentLink1URL: http://www.onsemi.com/; ComponentLink2Description: Datasheet; ComponentLink2URL: http://www.onsemi.cn/pub_link/Collateral/MUR820-D.PDF; ComponentLink3Description: Package Specification; ComponentLink3URL: http://www.onsemi.com/pub_link/Collateral/221B-04.PDF
footprint ONSC-TO-220-2-221B-04 (FM, 2-Leads, Body 10.3x4.85mm, Pitch 5.08mm)
pins: 1 K, 3 A

## SUR81520G
designator D?
SWITCHMODE(TM) Power Rectifier, 2-Pin TO-220, Pb-Free, Tube; Manufacturer: On Semiconductor; PartNumber: SUR81520G; IFSM Max (A): 200; Type: Ultrafast; DatasheetVersion: Rev. 9; PackageVersion: Rev. F, 04/2013; PackageReference: TO-220-2-221B-04; PackageDescription: 2-Pin Flange Mount, Vertical Straight Lead, Body 9.97 x 4.44 mm, Pitch 5.08 mm; Supplier 1: Mouser; Supplier Part Number 1: N/A; Packing: Tube; RoHS: TRUE; VRRM Max (V): 200; Mounting Technology: Through Hole; ComponentLink1Description: Manufacturer URL; ComponentLink1URL: http://www.onsemi.com/; ComponentLink2Description: Datasheet; ComponentLink2URL: http://www.onsemi.com/pub_link/Collateral/MUR1520-D.PDF; ComponentLink3Description: Package Specification; ComponentLink3URL: http://www.onsemi.com/pub_link/Collateral/221B-04.PDF
footprint ONSC-TO-220-2-221B-04 (FM, 2-Leads, Body 10.3x4.85mm, Pitch 5.08mm)
pins: 1 K, 3 A

## SUR81560G
designator D?
SWITCHMODE(TM) Power Rectifier, 2-Pin TO-220, Pb-Free, Tube; Manufacturer: On Semiconductor; PartNumber: SUR81560G; IFSM Max (A): 150; Type: Ultrafast; VRRM Max (V): 600; DatasheetVersion: Rev. 9; PackageVersion: Rev. F, 04/2013; PackageReference: TO-220-2-221B-04; PackageDescription: 2-Pin Flange Mount, Vertical Straight Lead, Body 9.97 x 4.44 mm, Pitch 5.08 mm; Supplier 1: Mouser; Supplier Part Number 1: N/A; Packing: Tube; RoHS: TRUE; Mounting Technology: Through Hole; ComponentLink1Description: Manufacturer URL; ComponentLink1URL: http://www.onsemi.com/; ComponentLink2Description: Datasheet; ComponentLink2URL: http://www.onsemi.com/pub_link/Collateral/MUR1520-D.PDF; ComponentLink3Description: Package Specification; ComponentLink3URL: http://www.onsemi.com/pub_link/Collateral/221B-04.PDF
footprint ONSC-TO-220-2-221B-04 (FM, 2-Leads, Body 10.3x4.85mm, Pitch 5.08mm)
pins: 1 K, 3 A

## SURA8110T3G
designator D?
Surface Mount Ultrafast Power Rectifier, 2-Pin SMA, Pb-Free, Tape and Reel; Manufacturer: On Semiconductor; PartNumber: SURA8110T3G; IFSM Max (A): 50; DatasheetVersion: Rev. 5; PackageVersion: Rev. G, 07/2012; PackageReference: SMA-2-403D-02; PackageDescription: 2-Pin Small Molded Package, J-Bend Lead, Body 2.605 x 4.315 mm; Supplier 1: Digi-Key; Supplier Part Number 1: SURA8110T3G-ND; Supplier 2: Newark; Supplier Part Number 2: 76T7442; Supplier 3: Mouser; Supplier Part Number 3: 863-SURA8110T3G; Packing: Tape and Reel; RoHS: TRUE; Type: Ultrafast; Mounting Technology: Surface Mount; ComponentLink1Description: Manufacturer URL; ComponentLink1URL: http://www.onsemi.com/; ComponentLink2Description: Datasheet; ComponentLink2URL: http://www.onsemi.cn/pub_link/Collateral/MURA105T3-D.PDF; ComponentLink3Description: Package Specification; ComponentLink3URL: http://www.onsemi.com/pub_link/Collateral/403D-02.PDF
footprint ONSC-SMA-2-403D-02_V (Molded, 2-Leads, Body 4.57x2.92mm)
pins: 1 K, 2 A

## SURA8120T3G
designator D?
Surface Mount Ultrafast Power Rectifier, 2-Pin SMA, Pb-Free, Tape and Reel; Manufacturer: On Semiconductor; PartNumber: SURA8120T3G; IFSM Max (A): 40; DatasheetVersion: Rev. 8; PackageVersion: Rev. G, 07/2012; PackageReference: SMA-2-403D-02; PackageDescription: 2-Pin Small Molded Package, J-Bend Lead, Body 2.605 x 4.315 mm; Supplier 1: Digi-Key; Supplier Part Number 1: SURA8120T3G-ND; Supplier 2: Newark; Supplier Part Number 2: 76T7443; Supplier 3: Mouser; Supplier Part Number 3: 863-SURA8120T3G; Packing: Tape and Reel; RoHS: TRUE; Type: Ultrafast; Mounting Technology: Surface Mount; ComponentLink1Description: Manufacturer URL; ComponentLink1URL: http://www.onsemi.com/; ComponentLink2Description: Datasheet; ComponentLink2URL: http://www.onsemi.cn/pub_link/Collateral/MURA115T3-D.PDF; ComponentLink3Description: Package Specification; ComponentLink3URL: http://www.onsemi.com/pub_link/Collateral/403D-02.PDF
footprint ONSC-SMA-2-403D-02_V (Molded, 2-Leads, Body 4.57x2.92mm)
pins: 1 K, 2 A

## SURA8130T3G
designator D?
Surface Mount Ultrafast Power Rectifier, 2-Pin SMA, Pb-Free, Tape and Reel; Manufacturer: On Semiconductor; PartNumber: SURA8130T3G; IFSM Max (A): 35; DatasheetVersion: Rev. 5; PackageVersion: Rev. G, 07/2012; PackageReference: SMA-2-403D-02; PackageDescription: 2-Pin Small Molded Package, J-Bend Lead, Body 2.605 x 4.315 mm; Supplier 1: Digi-Key; Supplier Part Number 1: SURA8130T3G-ND; Supplier 2: Mouser; Supplier Part Number 2: 863-SURA8130T3G; Packing: Tape and Reel; RoHS: TRUE; Type: Ultrafast; Mounting Technology: Surface Mount; ComponentLink1Description: Manufacturer URL; ComponentLink1URL: http://www.onsemi.com/; ComponentLink2Description: Datasheet; ComponentLink2URL: http://www.onsemi.cn/pub_link/Collateral/MURA130T3-D.PDF; ComponentLink3Description: Package Specification; ComponentLink3URL: http://www.onsemi.com/pub_link/Collateral/403D-02.PDF
footprint ONSC-SMA-2-403D-02_V (Molded, 2-Leads, Body 4.57x2.92mm)
pins: 1 K, 2 A

## SURA8140T3G
designator D?
Surface Mount Ultrafast Power Rectifier, 2-Pin SMA, Pb-Free, Tape and Reel; Manufacturer: On Semiconductor; PartNumber: SURA8140T3G; IFSM Max (A): 35; DatasheetVersion: Rev. 5; PackageVersion: Rev. G, 07/2012; PackageReference: SMA-2-403D-02; PackageDescription: 2-Pin Small Molded Package, J-Bend Lead, Body 2.605 x 4.315 mm; Supplier 1: Digi-Key; Supplier Part Number 1: SURA8140T3G-ND; Supplier 2: Newark; Supplier Part Number 2: 76T7445; Supplier 3: Mouser; Supplier Part Number 3: 863-SURA8140T3G; Packing: Tape and Reel; RoHS: TRUE; Type: Ultrafast; Mounting Technology: Surface Mount; ComponentLink1Description: Manufacturer URL; ComponentLink1URL: http://www.onsemi.com/; ComponentLink2Description: Datasheet; ComponentLink2URL: http://www.onsemi.cn/pub_link/Collateral/MURA130T3-D.PDF; ComponentLink3Description: Package Specification; ComponentLink3URL: http://www.onsemi.com/pub_link/Collateral/403D-02.PDF
footprint ONSC-SMA-2-403D-02_V (Molded, 2-Leads, Body 4.57x2.92mm)
pins: 1 K, 2 A

## SURA8160T3G
designator D?
Surface Mount Ultrafast Power Rectifier, 2-Pin SMA, Pb-Free, Tape and Reel; Manufacturer: On Semiconductor; PartNumber: SURA8160T3G; IFSM Max (A): 30; VRRM Max (V): 600; DatasheetVersion: Rev. 6; PackageVersion: Rev. G, 07/2012; PackageReference: SMA-2-403D-02; PackageDescription: 2-Pin Small Molded Package, J-Bend Lead, Body 2.605 x 4.315 mm; Supplier 1: Digi-Key; Supplier Part Number 1: SURA8160T3G-ND; Supplier 2: Mouser; Supplier Part Number 2: 863-SURA8160T3G; Packing: Tape and Reel; RoHS: TRUE; Type: Ultrafast; Mounting Technology: Surface Mount; ComponentLink1Description: Manufacturer URL; ComponentLink1URL: http://www.onsemi.com/; ComponentLink2Description: Datasheet; ComponentLink2URL: http://www.onsemi.cn/pub_link/Collateral/MURA160T3-D.PDF; ComponentLink3Description: Package Specification; ComponentLink3URL: http://www.onsemi.com/pub_link/Collateral/403D-02.PDF
footprint ONSC-SMA-2-403D-02_V (Molded, 2-Leads, Body 4.57x2.92mm)
pins: 1 K, 2 A

## SURA8210T3G
designator D?
Surface Mount Ultrafast Power Rectifier, 2-Pin SMA, Pb-Free, Tape and Reel; Manufacturer: On Semiconductor; PartNumber: SURA8210T3G; IFSM Max (A): 50; DatasheetVersion: Rev. 4; PackageVersion: Rev. G, 07/2012; PackageReference: SMA-2-403D-02; PackageDescription: 2-Pin Small Molded Package, J-Bend Lead, Body 2.605 x 4.315 mm; Supplier 1: Digi-Key; Supplier Part Number 1: SURA8210T3G-ND; Supplier 2: Newark; Supplier Part Number 2: 76T7447; Supplier 3: Mouser; Supplier Part Number 3: 863-SURA8210T3G; Packing: Tape and Reel; RoHS: TRUE; Type: Ultrafast; Mounting Technology: Surface Mount; ComponentLink1Description: Manufacturer URL; ComponentLink1URL: http://www.onsemi.com/; ComponentLink2Description: Datasheet; ComponentLink2URL: http://www.onsemi.cn/pub_link/Collateral/MURA205T3-D.PDF; ComponentLink3Description: Package Specification; ComponentLink3URL: http://www.onsemi.com/pub_link/Collateral/403D-02.PDF
footprint ONSC-SMA-2-403D-02_V (Molded, 2-Leads, Body 4.57x2.92mm)
pins: 1 K, 2 A

## SURA8215T3G
designator D?
Surface Mount Ultrafast Power Rectifier, 2-Pin SMA, Pb-Free, Tape and Reel; Manufacturer: On Semiconductor; PartNumber: SURA8215T3G; IFSM Max (A): 40; DatasheetVersion: Rev. 5; PackageVersion: Rev. G, 07/2012; PackageReference: SMA-2-403D-02; PackageDescription: 2-Pin Small Molded Package, J-Bend Lead, Body 2.605 x 4.315 mm; Supplier 1: Digi-Key; Supplier Part Number 1: SURA8215T3G-ND; Supplier 2: Newark; Supplier Part Number 2: 76T7448; Supplier 3: Mouser; Supplier Part Number 3: 863-SURA8215T3G; Packing: Tape and Reel; RoHS: TRUE; Type: Ultrafast; Mounting Technology: Surface Mount; ComponentLink1Description: Manufacturer URL; ComponentLink1URL: http://www.onsemi.com/; ComponentLink2Description: Datasheet; ComponentLink2URL: http://www.onsemi.cn/pub_link/Collateral/MURA215T3-D.PDF; ComponentLink3Description: Package Specification; ComponentLink3URL: http://www.onsemi.com/pub_link/Collateral/403D-02.PDF
footprint ONSC-SMA-2-403D-02_V (Molded, 2-Leads, Body 4.57x2.92mm)
pins: 1 K, 2 A

## SURA8220T3G
designator D?
Surface Mount Ultrafast Power Rectifier, 2-Pin SMA, Pb-Free, Tape and Reel; Manufacturer: On Semiconductor; PartNumber: SURA8220T3G; IFSM Max (A): 40; DatasheetVersion: Rev. 5; PackageVersion: Rev. G, 07/2012; PackageReference: SMA-2-403D-02; PackageDescription: 2-Pin Small Molded Package, J-Bend Lead, Body 2.605 x 4.315 mm; Supplier 1: Digi-Key; Supplier Part Number 1: SURA8220T3G-ND; Supplier 2: Mouser; Supplier Part Number 2: 863-SURA8220T3G; Packing: Tape and Reel; RoHS: TRUE; Type: Ultrafast; Mounting Technology: Surface Mount; ComponentLink1Description: Manufacturer URL; ComponentLink1URL: http://www.onsemi.com/; ComponentLink2Description: Datasheet; ComponentLink2URL: http://www.onsemi.cn/pub_link/Collateral/MURA215T3-D.PDF; ComponentLink3Description: Package Specification; ComponentLink3URL: http://www.onsemi.com/pub_link/Collateral/403D-02.PDF
footprint ONSC-SMA-2-403D-02_V (Molded, 2-Leads, Body 4.57x2.92mm)
pins: 1 K, 2 A

## SURA8240T3G
designator D?
Surface Mount Ultrafast Power Rectifier, 2-Pin SMA, Pb-Free, Tape and Reel; Manufacturer: On Semiconductor; PartNumber: SURA8240T3G; IFSM Max (A): 35; DatasheetVersion: Rev. 4; PackageVersion: Rev. G, 07/2012; PackageReference: SMA-2-403D-02; PackageDescription: 2-Pin Small Molded Package, J-Bend Lead, Body 2.605 x 4.315 mm; Supplier 1: Digi-Key; Supplier Part Number 1: SURA8240T3G-ND; Supplier 2: Mouser; Supplier Part Number 2: 863-SURA8240T3G; Packing: Tape and Reel; RoHS: TRUE; Type: Ultrafast; Mounting Technology: Surface Mount; ComponentLink1Description: Manufacturer URL; ComponentLink1URL: http://www.onsemi.com/; ComponentLink2Description: Datasheet; ComponentLink2URL: http://www.onsemi.cn/pub_link/Collateral/MURA230T3-D.PDF; ComponentLink3Description: Package Specification; ComponentLink3URL: http://www.onsemi.com/pub_link/Collateral/403D-02.PDF
footprint ONSC-SMA-2-403D-02_V (Molded, 2-Leads, Body 4.57x2.92mm)
pins: 1 K, 2 A

## SURA8260T3G
designator D?
Surface Mount Ultrafast Power Rectifier, 2-Pin SMA, Pb-Free, Tape and Reel; Manufacturer: On Semiconductor; PartNumber: SURA8260T3G; IFSM Max (A): 30; VRRM Max (V): 600; DatasheetVersion: Rev. 4; PackageVersion: Rev. G, 07/2012; PackageReference: SMA-2-403D-02; PackageDescription: 2-Pin Small Molded Package, J-Bend Lead, Body 2.605 x 4.315 mm; Supplier 1: Digi-Key; Supplier Part Number 1: SURA8260T3G-ND; Supplier 2: Mouser; Supplier Part Number 2: 863-SURA8260T3G; Packing: Tape and Reel; RoHS: TRUE; Type: Ultrafast; Mounting Technology: Surface Mount; ComponentLink1Description: Manufacturer URL; ComponentLink1URL: http://www.onsemi.com/; ComponentLink2Description: Datasheet; ComponentLink2URL: http://www.onsemi.cn/pub_link/Collateral/MURA260T3-D.PDF; ComponentLink3Description: Package Specification; ComponentLink3URL: http://www.onsemi.com/pub_link/Collateral/403D-02.PDF
footprint ONSC-SMA-2-403D-02_V (Molded, 2-Leads, Body 4.57x2.92mm)
pins: 1 K, 2 A

## SURD8320T4G
designator D?
SWITCHMODE(TM) Power Rectifier, 3-Pin DPAK, Pb-Free, Tape and Reel; Manufacturer: On Semiconductor; PartNumber: SURD8320T4G; IFSM Max (A): 75; Type: Ultrafast; VRRM Max (V): 200; DatasheetVersion: Rev. 7; PackageVersion: Rev. E, 02/2014; PackageReference: DPAK-3-369C-01; PackageDescription: 3-Pin Flange Mount, Body 6.54 x 6.095 mm, Pitch 2.29 mm; Supplier 1: Digi-Key; Supplier Part Number 1: SURD8320T4G-ND; Supplier 2: Mouser; Supplier Part Number 2: 863-SURD8320T4G; Packing: Tape and Reel; RoHS: TRUE; Mounting Technology: Surface Mount; ComponentLink1Description: Manufacturer URL; ComponentLink1URL: http://www.onsemi.com/; ComponentLink2Description: Datasheet; ComponentLink2URL: http://www.onsemi.cn/pub_link/Collateral/MURD320-D.PDF; ComponentLink3Description: Package Specification; ComponentLink3URL: http://www.onsemi.cn/pub_link/Collateral/369C.PDF
footprint ONSC-DPAK-3-369C-01_V (DPAK, 3-Leads, Body 6.54x6.095mm, Pitch 2.29mm)
pins: 1 A, 3 A, 4 K

## SURD8330T4G
designator D?
SWITCHMODE(TM) Power Rectifier, 3-Pin DPAK, Pb-Free, Tape and Reel; Manufacturer: On Semiconductor; PartNumber: SURD8330T4G; IFSM Max (A): 75; Type: Ultrafast; DatasheetVersion: Rev. 5; PackageVersion: Rev. E, 02/2014; PackageReference: DPAK-3-369C-01; PackageDescription: 3-Pin Flange Mount, Body 6.54 x 6.095 mm, Pitch 2.29 mm; Supplier 1: Digi-Key; Supplier Part Number 1: SURD8330T4G-ND; Supplier 2: Mouser; Supplier Part Number 2: 863-SURD8330T4G; Packing: Tape and Reel; RoHS: TRUE; Mounting Technology: Surface Mount; ComponentLink1Description: Manufacturer URL; ComponentLink1URL: http://www.onsemi.com/; ComponentLink2Description: Datasheet; ComponentLink2URL: http://www.onsemi.cn/pub_link/Collateral/MURD330-D.PDF; ComponentLink3Description: Package Specification; ComponentLink3URL: http://www.onsemi.cn/pub_link/Collateral/369C.PDF
footprint ONSC-DPAK-3-369C-01_V (DPAK, 3-Leads, Body 6.54x6.095mm, Pitch 2.29mm)
pins: 1 A, 3 A, 4 K

## SURD8530T4G
designator D?
SWITCHMODE(TM) Power Rectifier, 3-Pin DPAK, Pb-Free, Tape and Reel; Manufacturer: On Semiconductor; PartNumber: SURD8530T4G; IFSM Max (A): 75; Type: Ultrafast; VRRM Max (V): 300; DatasheetVersion: Rev. 4; PackageVersion: Rev. E, 02/2014; PackageReference: DPAK-3-369C-01; PackageDescription: 3-Pin Flange Mount, Body 6.54 x 6.095 mm, Pitch 2.29 mm; Supplier 1: Digi-Key; Supplier Part Number 1: SURD8530T4G-ND; Supplier 2: Mouser; Supplier Part Number 2: 863-SURD8530T4G; Packing: Tape and Reel; RoHS: TRUE; Mounting Technology: Surface Mount; ComponentLink1Description: Manufacturer URL; ComponentLink1URL: http://www.onsemi.com/; ComponentLink2Description: Datasheet; ComponentLink2URL: http://www.onsemi.cn/pub_link/Collateral/MURD530-D.PDF; ComponentLink3Description: Package Specification; ComponentLink3URL: http://www.onsemi.cn/pub_link/Collateral/369C.PDF
footprint ONSC-DPAK-3-369C-01_V (DPAK, 3-Leads, Body 6.54x6.095mm, Pitch 2.29mm)
pins: 1 A, 3 A, 4 K

## SURHB8840CTT4G
designator D?
Power Rectifier, 3-Pin D2PAK, Pb-Free, Tape and Reel; Manufacturer: On Semiconductor; PartNumber: SURHB8840CTT4G; Note: 0; IFSM Max (A): 100; IO(rec) Max (A): 8; Type: Ultrafast; VRRM Max (V): 400; DatasheetVersion: Rev. 7; PackageVersion: Rev. K, 09/2008; PackageReference: D2PAK-3-418B-04; PackageDescription: 3-Pin Flange Mount, Body 9.145 x 9.97 mm, Pitch 2.54 mm; Packing: Tape and Reel; RoHS: TRUE; Mounting Technology: Surface Mount; ComponentLink1Description: Manufacturer URL; ComponentLink1URL: http://www.onsemi.com/; ComponentLink2Description: Datasheet; ComponentLink2URL: http://www.onsemi.cn/pub_link/Collateral/MURHB840CT-D.PDF; ComponentLink3Description: Package Specification; ComponentLink3URL: http://www.onsemi.com/pub_link/Collateral/418B-04.PDF
footprint ONSC-D2PAK-3-418B-04_V (DPAK, 3-Leads, Body 9.97x9.145mm, Pitch 2.54mm)
pins: 1 A1, 3 A2, 4 K